# Altium footprint library Connectors.PcbLib: 37 footprints (part 2 of 3)
Each footprint in its own frame and in the unit in brackets; x right, y up, seen from the top. Pads: shape width x height; smd on the part's side, far side on the other; paste and mask are expansions set on the pad; w line width, h text height; cw(c..) or ccw(c..) is an arc to the next point about the centre after c.
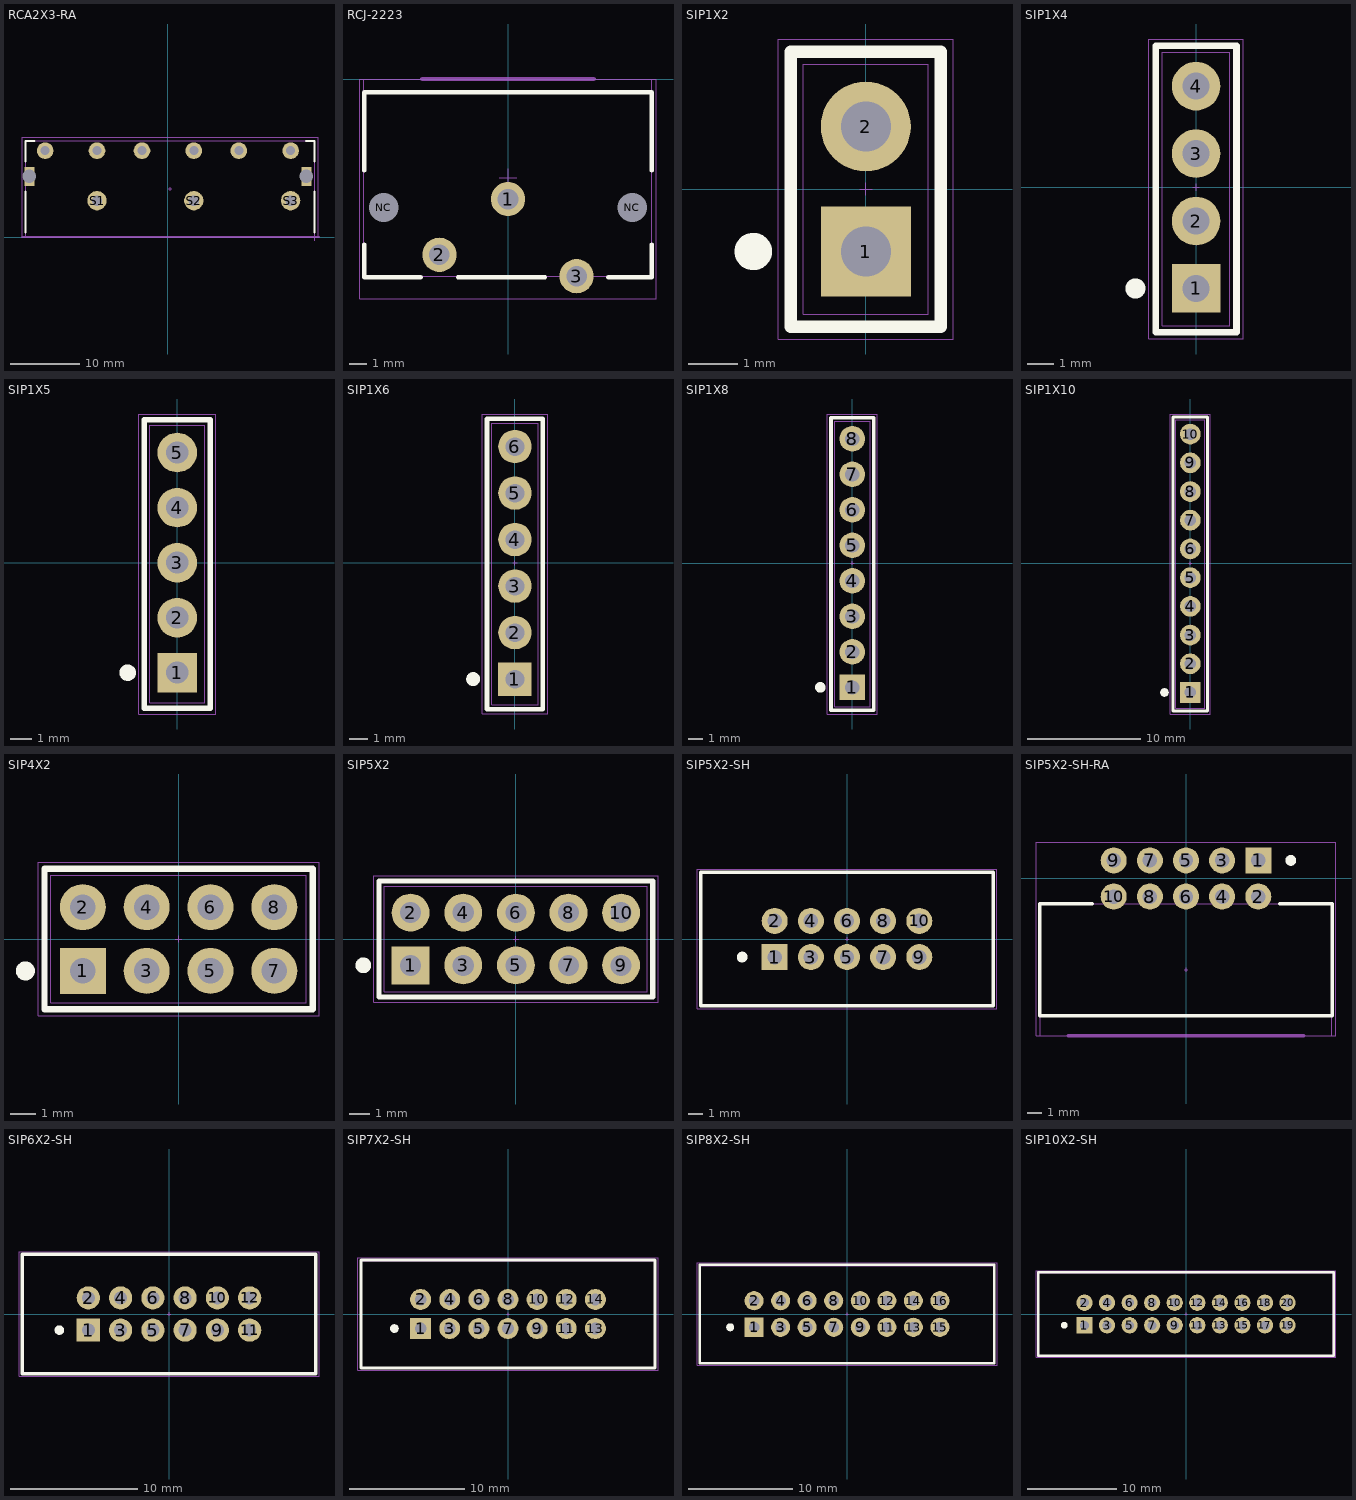
[diagram p1: the footprints below, top view; thin cyan lines are the x and y axes]

## RCA2X3-RA [mil]
pads (11):
  round 110 hole 59: S1(-403.5,207) S2(147.5,207) S3(698.5,207)
  round 95 hole 51: T1-1(-698.5,492) T1-2(-147.5,492) T1-3(403.5,492) T2-1(-403.5,492) T2-2(147.5,492) T2-3(698.5,492)
  rect 57x108 hole 77 square: ""(-788.5,345) ""(788.5,345)
Top Overlay:
  lines w10: -810,25 -810,260 ; -810,430 -810,547 -760,547 ; 785,547 835,547 835,430 ; 835,25 835,260
Top Courtyard:
  lines w1: -830,0 855,0 855,567 -830,567 -830,0
Top 3D Body:
  lines w1: 835,-20 835,0 855,0
Top Assembly:
  lines w1: 2.5,273.5 22.5,273.5 ; 12.5,263.5 12.5,283.5 ; -810,0 -810,547 835,547 835,0 -810,0
Board Edge:
  lines w10: -830,0 860,0
3D body "pjras3x2s_series.STEP": height 1125, standoff -154.5, extent -807.1,-315 835.1,547

## RCJ-2223 [mm]
pads (5):
  round 2 hole 1.2: 1(0,-7) 2(-4,-10.25) 3(4,-11.5)
  rect 1x1 hole 1.7 square unplated: NC(-7.25,-7.5) NC(7.25,-7.5)
Top Overlay:
  lines w0.254: -8.382,-9.652 -8.382,-11.557 -5.08,-11.557 ; -8.382,-5.334 -8.382,-0.762 8.382,-0.762 8.382,-5.334 ; -2.92,-11.557 2.159,-11.557 ; 5.842,-11.557 8.382,-11.557 8.382,-9.652
Top Courtyard:
  lines w0.025: -8.636,-12.827 -8.636,0 8.636,0 8.636,-12.827 -8.636,-12.827
Top Assembly:
  lines w0.025: -0.508,-5.75 0.508,-5.75 ; 0,-6.258 0,-5.242 ; -8.4,-11.5 -8.4,0 8.4,0 8.4,-11.5 -8.4,-11.5
Board Edge:
  lines w0.254: -5,0 5,0
3D body "CUI_DEVICES_RCJ-2223.step": height 27.41, standoff -4.99, extent -12,-12.01 8.4,7.79

## SIP1X2 [mil]
pads (2):
  rect 72x72 hole 40: 1(0,-50)
  round 72 hole 40: 2(0,50)
Top Overlay:
  circle w10: c-90,-50 r4.92
  circle w10: c-90,-50 r10
  lines w10: -60,-110 60,-110 60,110 -60,110 -60,-110
Top Courtyard:
  lines w1: -70,-120 70,-120 70,120 -70,120 -70,-120
Top Assembly:
  lines w1: -5,0 5,0 ; 0,-5 0,5 ; -50,-100 -50,100 50,100 50,-100 -50,-100
3D body "TSW-102-07-G-S.stp": height 330, standoff -100, extent -50,-105 50,100

## SIP1X4 [mil]
pads (4):
  rect 72x72 hole 40: 1(0,-150)
  round 72 hole 40: 2(0,-50) 3(0,50) 4(0,150)
Top Overlay:
  circle w10: c-90,-150 r10
  circle w10: c-90,-150 r4.92
  lines w10: -60,-215 -60,210 60,210 60,-215 -60,-215
Top Courtyard:
  lines w1: -70,-225 -70,220 70,220 70,-225 -70,-225
Top Assembly:
  lines w1: -5,0 5,0 ; 0,-5 0,5 ; -50,-205 50,-205 50,200 -50,200 -50,-205
3D body "TSW-104-07-G-S.stp": height 330, standoff -100, extent -50,-205 50,200

## SIP1X5 [mil]
pads (5):
  rect 72x72 hole 40: 1(0,-200)
  round 72 hole 40: 2(0,-100) 3(0,0) 4(0,100) 5(0,200)
Top Overlay:
  circle w10: c-90,-200 r4.92
  circle w10: c-90,-200 r10
  lines w10: -60,-265 60,-265 60,260 -60,260 -60,-265
Top Courtyard:
  lines w1: -70,-275 70,-275 70,270 -70,270 -70,-275
Top Assembly:
  lines w1: -5,0 5,0 ; 0,-5 0,5 ; -50,-255 -50,250 50,250 50,-255 -50,-255
3D body "TSW-105-07-G-S.stp": height 330, standoff -100, extent -50,-255 50,250

## SIP1X6 [mil]
pads (6):
  rect 72x72 hole 40: 1(0,-250)
  round 72 hole 40: 2(0,-150) 3(0,-50) 4(0,50) 5(0,150) 6(0,250)
Top Overlay:
  circle w10: c-90,-250 r4.92
  circle w10: c-90,-250 r10
  lines w10: -60,-315 60,-315 60,310 -60,310 -60,-315
Top Courtyard:
  lines w1: -70,-325 70,-325 70,320 -70,320 -70,-325
Top Assembly:
  lines w1: -5,0 5,0 ; 0,-5 0,5 ; -50,-305 -50,300 50,300 50,-305 -50,-305
3D body "TSW-106-07-G-S.stp": height 330.5, standoff -99.5, extent -50,-305 50,300

## SIP1X8 [mil]
pads (8):
  rect 72x72 hole 40: 1(0,-350)
  round 72 hole 40: 2(0,-250) 3(0,-150) 4(0,-50) 5(0,50) 6(0,150) 7(0,250) 8(0,350)
Top Overlay:
  circle w10: c-90,-350 r10
  circle w10: c-90,-350 r4.92
  lines w10: -60,-415 -60,410 60,410 60,-415 -60,-415
Top Courtyard:
  lines w1: -70,-425 -70,420 70,420 70,-425 -70,-425
Top Assembly:
  lines w1: -5,0 5,0 ; 0,-5 0,5 ; -50,-405 50,-405 50,400 -50,400 -50,-405
3D body "TSW-108-07-G-S.stp": height 330.5, standoff -99.5, extent -50,-405 50,400

## SIP1X10 [mil]
pads (10):
  rect 72x72 hole 40: 1(0,-450)
  round 72 hole 40: 2(0,-350) 3(0,-250) 4(0,-150) 5(0,-50) 6(0,50) 7(0,150) 8(0,250) 9(0,350) 10(0,450)
Top Overlay:
  circle w10: c-90,-450 r10
  circle w10: c-90,-450 r4.92
  lines w10: -60,-515 -60,510 60,510 60,-515 -60,-515
Top Courtyard:
  lines w1: -70,-525 -70,520 70,520 70,-525 -70,-525
Top Assembly:
  lines w1: -5,0 5,0 ; 0,-5 0,5 ; -50,-505 50,-505 50,500 -50,500 -50,-505
3D body "TSW-110-07-G-S.stp": height 330.5, standoff -99.5, extent -50,-505 50,500

## SIP4X2 [mil]
pads (8):
  rect 72x72 hole 40: 1(-150,-50)
  round 72 hole 40: 2(-150,50) 3(-50,-50) 4(-50,50) 5(50,-50) 6(50,50) 7(150,-50) 8(150,50)
Top Overlay:
  circle w10: c-240,-50 r10
  circle w10: c-240,-50 r4.92
  lines w10: -210,-110 -210,110 210,110 210,-110 -210,-110
Top Courtyard:
  lines w1: -220,-120 -220,120 220,120 220,-120 -220,-120
Top Assembly:
  lines w1: -5,0 5,0 ; 0,-5 0,5 ; -200,-100 200,-100 200,100 -200,100 -200,-100
3D body "TSW-104-07-G-D.stp": height 330, standoff -100, extent -200,-100 200,100

## SIP5X2 [mil]
pads (10):
  rect 72x72 hole 40: 1(-200,-50)
  round 72 hole 40: 2(-200,50) 3(-100,-50) 4(-100,50) 5(0,-50) 6(0,50) 7(100,-50) 8(100,50) 9(200,-50) 10(200,50)
Top Overlay:
  circle w10: c-290,-50 r10
  circle w10: c-290,-50 r4.92
  lines w10: -260,-110 -260,110 260,110 260,-110 -260,-110
Top Courtyard:
  lines w1: -270,-120 -270,120 270,120 270,-120 -270,-120
Top Assembly:
  lines w1: -5,0 5,0 ; 0,-5 0,5 ; -250,-100 250,-100 250,100 -250,100 -250,-100
3D body "TSW-105-07-G-D.stp": height 330, standoff -100, extent -250,-100 250,100

## SIP5X2-SH [mil]
pads (10):
  rect 72x72 hole 40: 1(-200,-50)
  round 72 hole 40: 2(-200,50) 3(-100,-50) 4(-100,50) 5(0,-50) 6(0,50) 7(100,-50) 8(100,50) 9(200,-50) 10(200,50)
Top Overlay:
  circle w10: c-290,-50 r10
  circle w10: c-290,-50 r4.92
  lines w10: -405,-185 -405,185 405,185 405,-185 -405,-185
Top Courtyard:
  lines w1: -415,-192.5 -415,192.5 415,192.5 415,-192.5 -415,-192.5
Top Assembly:
  lines w1: -5,0 5,0 ; 0,-5 0,5 ; -403.74,-182.5 403.74,-182.5 403.74,182.5 -403.74,182.5 -403.74,-182.5
3D body "HTSS-105-02-G-D.stp": height 350, standoff -180, extent -325,-175 325,190

## SIP5X2-SH-RA [mil]
pads (10):
  rect 72x72 hole 40: 1(200,50)
  round 72 hole 40: 2(200,-50) 3(100,50) 4(100,-50) 5(0,50) 6(0,-50) 7(-100,50) 8(-100,-50) 9(-200,50) 10(-200,-50)
Top Overlay:
  circle w10: c290,50 r4.92
  circle w10: c290,50 r10
  lines w10: -260,-70 -405,-70 -405,-380 405,-380 405,-70 260,-70
Top Courtyard:
  lines w1: -415,-435 415,-435 415,100 -415,100 -415,-435
Top Assembly:
  lines w1: -5,-252.5 5,-252.5 ; 0,-257.5 0,-247.5 ; -403.74,-435 403.74,-435 403.74,-70 -403.74,-70 -403.74,-435
Board Edge:
  lines w10: -325,-435 325,-435
3D body "HTSS-105-04-G-D-RA.stp": height 365.5, standoff -129.5, extent -325,-435 325,62.5

## SIP6X2-SH [mil]
pads (12):
  rect 72x72 hole 40: 1(-250,-50)
  round 72 hole 40: 2(-250,50) 3(-150,-50) 4(-150,50) 5(-50,-50) 6(-50,50) 7(50,-50) 8(50,50) 9(150,-50) 10(150,50) 11(250,-50) 12(250,50)
Top Overlay:
  circle w10: c-340,-50 r4.92
  circle w10: c-340,-50 r10
  lines w10: -455,-185 455,-185 455,185 -455,185 -455,-185
Top Courtyard:
  lines w1: -465,-192.5 465,-192.5 465,192.5 -465,192.5 -465,-192.5
Top Assembly:
  lines w1: -5,0 5,0 ; 0,-5 0,5 ; -453.74,-182.5 -453.74,182.5 453.74,182.5 453.74,-182.5 -453.74,-182.5
3D body "HTSS-106-02-G-D.stp": height 350, standoff -180, extent -375,-175 375,190

## SIP7X2-SH [mil]
pads (14):
  rect 72x72 hole 40: 1(-300,-50)
  round 72 hole 40: 2(-300,50) 3(-200,-50) 4(-200,50) 5(-100,-50) 6(-100,50) 7(0,-50) 8(0,50) 9(100,-50) 10(100,50) 11(200,-50) 12(200,50) 13(300,-50) 14(300,50)
Top Overlay:
  circle w10: c-390,-50 r10
  circle w10: c-390,-50 r4.92
  lines w10: -505,-185 -505,185 505,185 505,-185 -505,-185
Top Courtyard:
  lines w1: -515,-192.5 -515,192.5 515,192.5 515,-192.5 -515,-192.5
Top Assembly:
  lines w1: -5,0 5,0 ; 0,-5 0,5 ; -503.74,-182.5 503.74,-182.5 503.74,182.5 -503.74,182.5 -503.74,-182.5
3D body "HTSS-107-01-G-D.stp": height 350, standoff -130, extent -425,-175 425,190

## SIP8X2-SH [mil]
pads (16):
  rect 72x72 hole 40: 1(-350,-50)
  round 72 hole 40: 2(-350,50) 3(-250,-50) 4(-250,50) 5(-150,-50) 6(-150,50) 7(-50,-50) 8(-50,50) 9(50,-50) 10(50,50) 11(150,-50) 12(150,50) 13(250,-50) 14(250,50) 15(350,-50) 16(350,50)
Top Overlay:
  circle w10: c-440,-50 r4.92
  circle w10: c-440,-50 r10
  lines w10: -555,-185 555,-185 555,185 -555,185 -555,-185
Top Courtyard:
  lines w1: -565,-192.5 565,-192.5 565,192.5 -565,192.5 -565,-192.5
Top Assembly:
  lines w1: -5,0 5,0 ; 0,-5 0,5 ; -553.74,-182.5 -553.74,182.5 553.74,182.5 553.74,-182.5 -553.74,-182.5
3D body "HTSS-108-01-G-D.stp": height 366, standoff -114, extent -475,-175 475,190

## SIP10X2-SH [mil]
pads (20):
  rect 72x72 hole 40: 1(-450,-50)
  round 72 hole 40: 2(-450,50) 3(-350,-50) 4(-350,50) 5(-250,-50) 6(-250,50) 7(-150,-50) 8(-150,50) 9(-50,-50) 10(-50,50) 11(50,-50) 12(50,50) 13(150,-50) 14(150,50) 15(250,-50) 16(250,50) 17(350,-50) 18(350,50) 19(450,-50) 20(450,50)
Top Overlay:
  circle w10: c-540,-50 r4.92
  circle w10: c-540,-50 r10
  lines w10: -655,-185 655,-185 655,185 -655,185 -655,-185
Top Courtyard:
  lines w1: -665,-192.5 665,-192.5 665,192.5 -665,192.5 -665,-192.5
Top Assembly:
  lines w1: -5,0 5,0 ; 0,-5 0,5 ; -653.74,-182.5 -653.74,182.5 653.74,182.5 653.74,-182.5 -653.74,-182.5
3D body "HTSS-110-01-G-D.stp": height 366, standoff -114, extent -575,-175 575,190